# Altium schematic symbol library NES Symbols.SchLib: 13 symbols
Pins are listed as number, name and electrical type; pins without a type are passive.

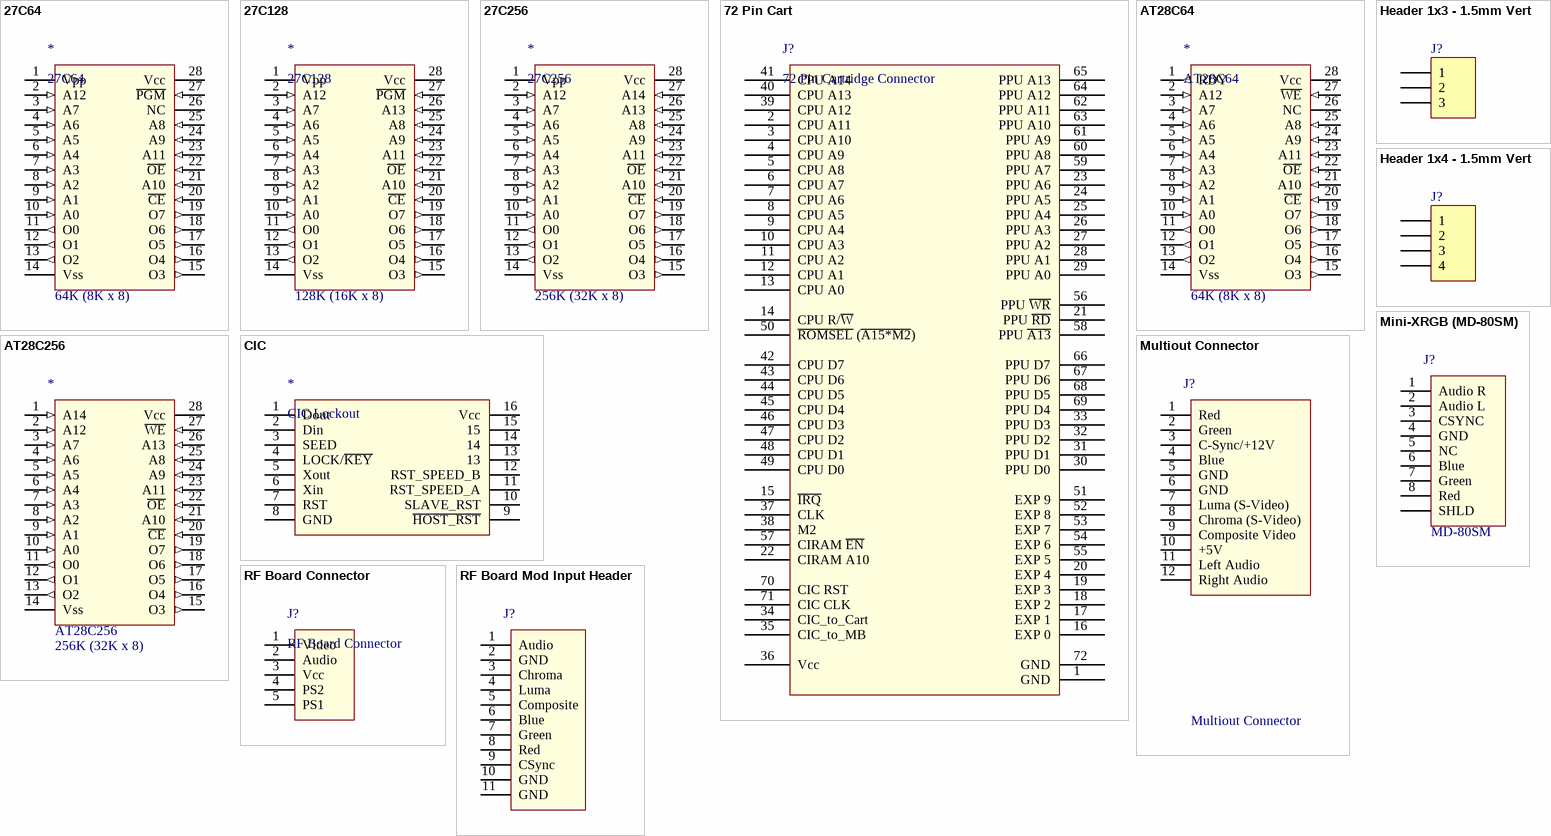
[diagram p0: symbols 27C64 to RF Board Mod Input Header]

## 27C64
designator *  Memory Size: 64K (8K x 8)
64K bit (8K x 8) EPROM - 28 pin
footprint DIP600-JW28 (DIP, 28-Leads, Row Spacing 15.24mm, Pitch 2.54mm, Body 37x13.3mm, Window)
pins: 1 Vpp (power), 2 A12 (in), 3 A7 (in), 4 A6 (in), 5 A5 (in), 6 A4 (in), 7 A3 (in), 8 A2 (in), 9 A1 (in), 10 A0 (in), 11 O0 (out), 12 O1 (out), 13 O2 (out), 14 Vss (power), 15 O3 (out), 16 O4 (out), 17 O5 (out), 18 O6 (out), 19 O7 (out), 20 ~{CE} (in), 21 A10 (in), 22 ~{OE} (in), 23 A11 (in), 24 A9 (in), 25 A8 (in), 26 NC, 27 ~{PGM} (in), 28 Vcc (power)

## 27C128
designator *  Memory Size: 128K (16K x 8)
128K bit (16K x 8) EPROM - 28 pin
footprint DIP600-JW28 (DIP, 28-Leads, Row Spacing 15.24mm, Pitch 2.54mm, Body 37x13.3mm, Window)
footprint DIP600-JW28 EPROM w/ window (DIP, 28-Leads, Row Spacing 15.24mm, Pitch 2.54mm, Body 37x13.3mm, Window)
pins: 1 Vpp (power), 2 A12 (in), 3 A7 (in), 4 A6 (in), 5 A5 (in), 6 A4 (in), 7 A3 (in), 8 A2 (in), 9 A1 (in), 10 A0 (in), 11 O0 (out), 12 O1 (out), 13 O2 (out), 14 Vss (power), 15 O3 (out), 16 O4 (out), 17 O5 (out), 18 O6 (out), 19 O7 (out), 20 ~{CE} (in), 21 A10 (in), 22 ~{OE} (in), 23 A11 (in), 24 A9 (in), 25 A8 (in), 26 A13 (in), 27 ~{PGM} (in), 28 Vcc (power)

## 27C256
designator *  Memory Size: 256K (32K x 8)
256K bit (32K x 8) EPROM - 28 pin
footprint DIP600-JW28 (DIP, 28-Leads, Row Spacing 15.24mm, Pitch 2.54mm, Body 37x13.3mm, Window)
footprint DIP600-JW28 EPROM w/ window (DIP, 28-Leads, Row Spacing 15.24mm, Pitch 2.54mm, Body 37x13.3mm, Window)
pins: 1 Vpp (power), 2 A12 (in), 3 A7 (in), 4 A6 (in), 5 A5 (in), 6 A4 (in), 7 A3 (in), 8 A2 (in), 9 A1 (in), 10 A0 (in), 11 O0 (out), 12 O1 (out), 13 O2 (out), 14 Vss (power), 15 O3 (out), 16 O4 (out), 17 O5 (out), 18 O6 (out), 19 O7 (out), 20 ~{CE} (in), 21 A10 (in), 22 ~{OE} (in), 23 A11 (in), 24 A9 (in), 25 A8 (in), 26 A13 (in), 27 A14 (in), 28 Vcc (power)

## 72 Pin Cart
designator J?, comment 72 Pin Cartridge Connector
footprint 72-PIN-CART-1 (72 Pin NES Cartridge Connector)
pins: 1 GND, 2 CPU A11, 3 CPU A10, 4 CPU A9, 5 CPU A8, 6 CPU A7, 7 CPU A6, 8 CPU A5, 9 CPU A4, 10 CPU A3, 11 CPU A2, 12 CPU A1, 13 CPU A0, 14 CPU R/~{W}, 15 ~{IRQ}, 16 EXP 0, 17 EXP 1, 18 EXP 2, 19 EXP 3, 20 EXP 4, 21 PPU ~{RD}, 22 CIRAM A10, 23 PPU A6, 24 PPU A5, 25 PPU A4, 26 PPU A3, 27 PPU A2, 28 PPU A1, 29 PPU A0, 30 PPU D0, 31 PPU D1, 32 PPU D2, 33 PPU D3, 34 CIC_to_Cart, 35 CIC_to_MB, 36 Vcc, 37 CLK, 38 M2, 39 CPU A12, 40 CPU A13, 41 CPU A14, 42 CPU D7, 43 CPU D6, 44 CPU D5, 45 CPU D4, 46 CPU D3, 47 CPU D2, 48 CPU D1, 49 CPU D0, 50 ~{ROMSEL} (~{A15*M2}), 51 EXP 9, 52 EXP 8, 53 EXP 7, 54 EXP 6, 55 EXP 5, 56 PPU ~{WR}, 57 CIRAM ~{EN}, 58 PPU ~{A13}, 59 PPU A7, 60 PPU A8, 61 PPU A9, 62 PPU A11, 63 PPU A10, 64 PPU A12, 65 PPU A13, 66 PPU D7, 67 PPU D6, 68 PPU D5, 69 PPU D4, 70 CIC RST, 71 CIC CLK, 72 GND

## AT28C64
designator *  Memory Size: 64K (8K x 8)
Atmel 64K bit (8K x 8) EEPROM - 28 pin
footprint DIP600-JW28 (DIP, 28-Leads, Row Spacing 15.24mm, Pitch 2.54mm, Body 37x13.3mm, Window)
footprint DIP600-JW28 EPROM w/ window (DIP, 28-Leads, Row Spacing 15.24mm, Pitch 2.54mm, Body 37x13.3mm, Window)
pins: 1 RDY (out), 2 A12 (in), 3 A7 (in), 4 A6 (in), 5 A5 (in), 6 A4 (in), 7 A3 (in), 8 A2 (in), 9 A1 (in), 10 A0 (in), 11 O0 (out), 12 O1 (out), 13 O2 (out), 14 Vss (power), 15 O3 (out), 16 O4 (out), 17 O5 (out), 18 O6 (out), 19 O7 (out), 20 ~{CE} (in), 21 A10 (in), 22 ~{OE} (in), 23 A11 (in), 24 A9 (in), 25 A8 (in), 26 NC, 27 ~{WE} (in), 28 Vcc (power)

## AT28C256
designator *  Memory Size: 256K (32K x 8)  (hidden comment: AT28C256)
Atmel 256K bit (32K x 8) EEPROM - 28 pin; Value: AT28C256
footprint DIP600-JW28 (DIP, 28-Leads, Row Spacing 15.24mm, Pitch 2.54mm, Body 37x13.3mm, Window)
footprint DIP600-JW28 EPROM w/ window (DIP, 28-Leads, Row Spacing 15.24mm, Pitch 2.54mm, Body 37x13.3mm, Window)
pins: 1 A14 (in), 2 A12 (in), 3 A7 (in), 4 A6 (in), 5 A5 (in), 6 A4 (in), 7 A3 (in), 8 A2 (in), 9 A1 (in), 10 A0 (in), 11 O0 (out), 12 O1 (out), 13 O2 (out), 14 Vss (power), 15 O3 (out), 16 O4 (out), 17 O5 (out), 18 O6 (out), 19 O7 (out), 20 ~{CE} (in), 21 A10 (in), 22 ~{OE} (in), 23 A11 (in), 24 A9 (in), 25 A8 (in), 26 A13 (in), 27 ~{WE} (in), 28 Vcc (power)

## CIC
designator *, comment CIC Lockout
10NES CIC Lockout Chip
footprint DIP16 (DIP, 16-Leads, Row Spacing 7.62mm, Pitch 2.54mm, Body 20.07x6.73mm)
pins: 1 Dout, 2 Din, 3 SEED, 4 LOCK/~{KEY}, 5 Xout, 6 Xin, 7 RST, 8 GND (power), 9 ~{HOST_RST}, 10 SLAVE_RST, 11 RST_SPEED_A, 12 RST_SPEED_B, 13, 14, 15, 16 Vcc (power)

## Header 1x3 - 1.5mm Vert
designator J?, comment Header 1x3 1.5mm  (value not drawn)
Header, 3 Pin, 1.5mm Pitch, Vertical; Value: Header 1x3 1.5mm
footprint HDR1X3-15MM VERT - L (Connector; Header; 3 Position; 1.5mm Pitch;Vertical Mount)
pins: 1, 2, 3

## Header 1x4 - 1.5mm Vert
designator J?, comment Header 1x4 1.5mm  (value not drawn)
Header, 4 Pin, 1.5mm Pitch, Vertical; Value: Header 1x4 1.5mm
footprint HDR1X4-15MM VERT - L (Connector; Header; 4 Position; 1.5mm Pitch;Vertical Mount)
pins: 1, 2, 3, 4

## Mini-XRGB (MD-80SM)
designator J?, comment MD-80SM
8 Pin Mini DIN Connector, Shielded, Through Hole, Right Angle; Label: *; Supplier 1: Mouser; Supplier Part Number 1: 490-MD-80SM; Value: MD-80SM
footprint MINI-DIN-8 (MD-80SM) (CUI Inc, Mini Din Connector, Through Hole, Right Angle)
footprint MINI-DIN-8-ALT (MD-80SM) (CUI Inc, Mini Din Connector, Through Hole, Right Angle)
pins: 1 Audio R, 2 Audio L, 3 CSYNC, 4 GND, 5 NC, 6 Blue, 7 Green, 8 Red, SHLD

## Multiout Connector
designator J?
SNES Multiout Connector; Value: Multiout Connector
footprint Multiout-1 (Retrofixes Mutliout Connector, Through Hole)
footprint Multiout-2 (Retrofixes Mutliout Connector, Panel Mount with Through Holes)
pins: 1 Red, 2 Green, 3 C-Sync/+12V, 4 Blue, 5 GND, 6 GND, 7 Luma (S-Video), 8 Chroma (S-Video), 9 Composite Video, 10 +5V, 11 Left Audio, 12 Right Audio

## RF Board Connector
designator J?
Motherboard Connector to RF/Power Module; Value: RF Board Connector
footprint RF Board Connector (connects the motherboard to the RF/power box)
pins: 1 Video, 2 Audio, 3 Vcc, 4 PS2, 5 PS1

## RF Board Mod Input Header
designator J?, comment 1.27mm Pitch  (value not drawn)
Video and audio inputs for the RF Board Mod; Value: 1.27mm Pitch
footprint RF Board Mod Inputs (Video and audio inputs for the RF Board Mod)
pins: 1 Audio, 2 GND, 3 Chroma, 4 Luma, 5 Composite, 6 Blue, 7 Green, 8 Red, 9 CSync, 10 GND, 11 GND